# Altium footprint library 常用电容电阻电感.PCBLIB: 79 footprints (part 3 of 5)
Each footprint in its own frame and in the unit in brackets; x right, y up, seen from the top. Pads: shape width x height; smd on the part's side, far side on the other; paste and mask are expansions set on the pad; w line width, h text height; cw(c..) or ccw(c..) is an arc to the next point about the centre after c.
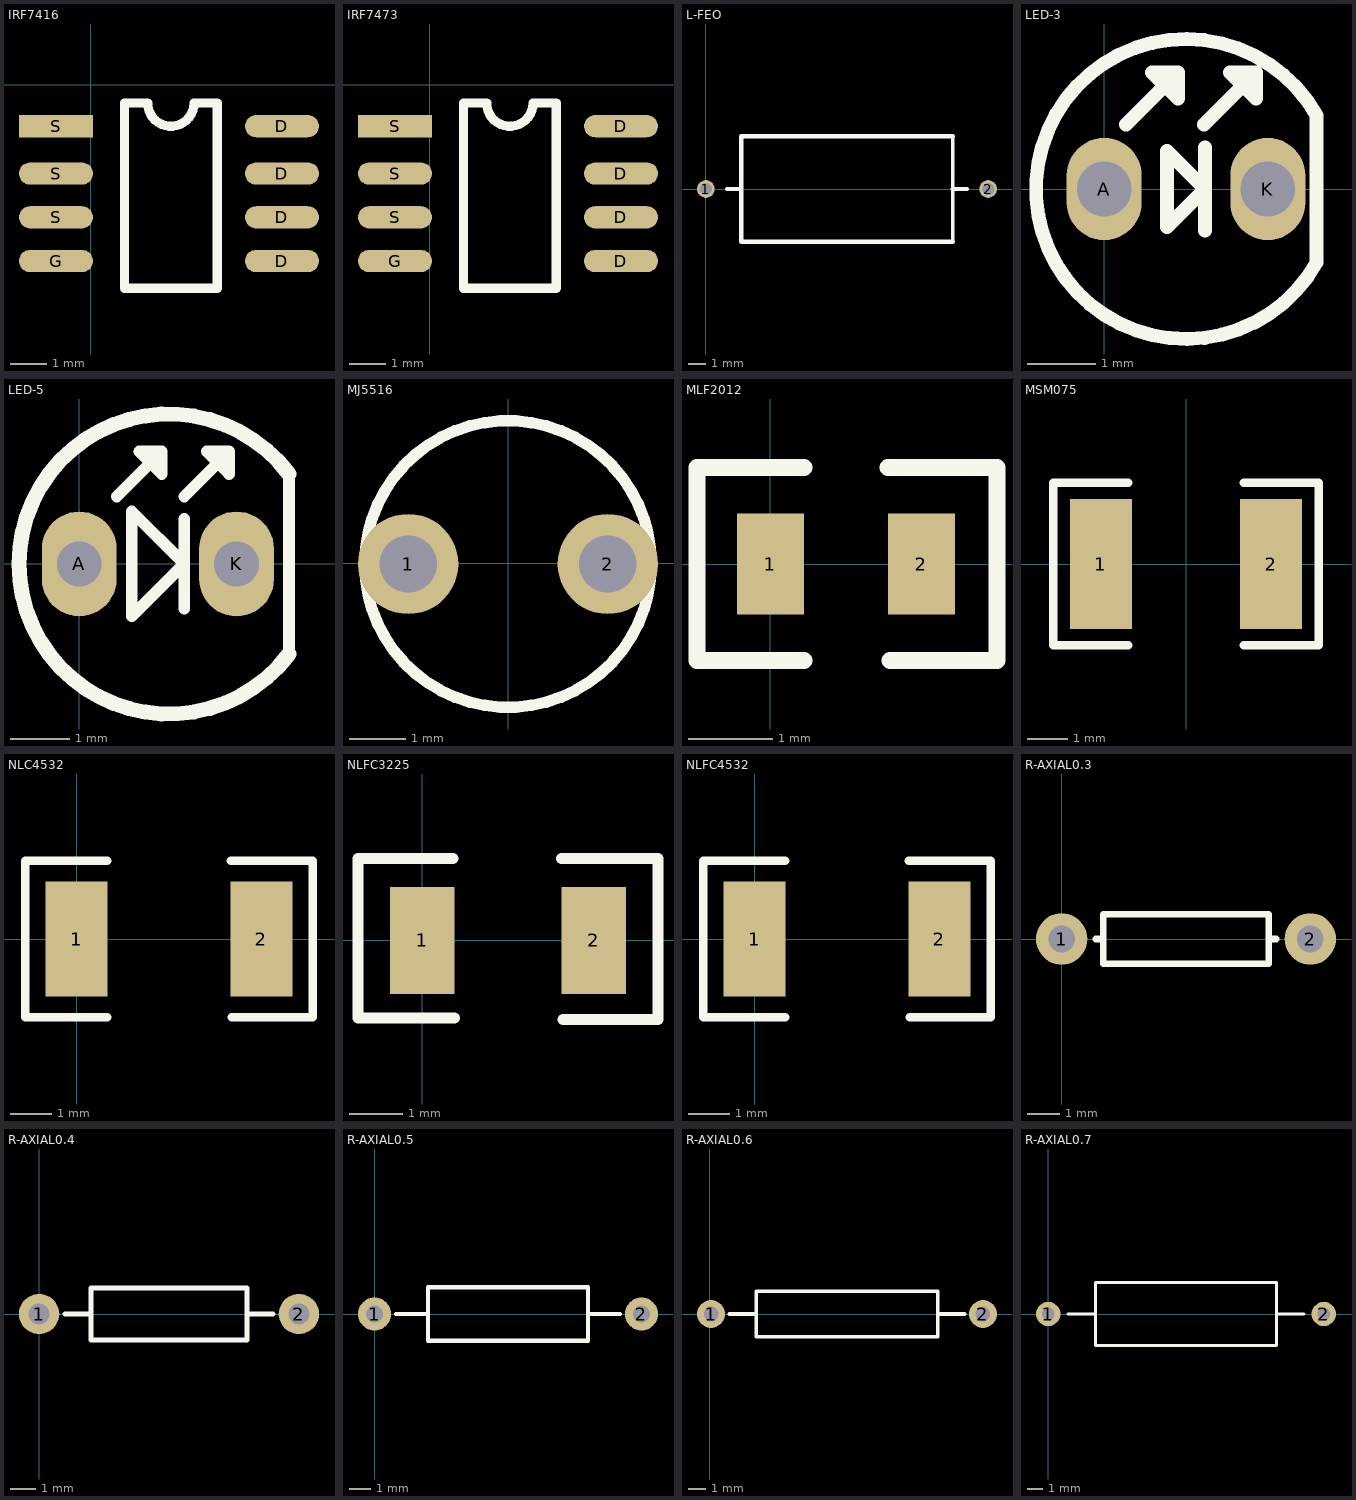
[diagram p2: the footprints below, top view; thin cyan lines are the x and y axes]

## IRF7416 [mil]
pads (8):
  oval 80x24 smd: D(206.41,-190.67) D(206.41,-143.43) D(206.41,-96.18) D(206.41,-45) G(-37.69,-190.67) S(-37.69,-143.43) S(-37.69,-96.18)
  rect 80x24 smd: S(-37.69,-45)
TopOverlay:
  lines w10: 36.39,-220.06 136.39,-220.06 136.39,-20.06 111.39,-20.06 cw(c86.39,-20.06) 61.39,-20.06 36.39,-20.06 36.39,-220.06

## IRF7473 [mil]
pads (8):
  oval 80x24 smd: D(206.41,-190.67) D(206.41,-143.43) D(206.41,-96.18) D(206.41,-45) G(-37.69,-190.67) S(-37.69,-143.43) S(-37.69,-96.18)
  rect 80x24 smd: S(-37.69,-45)
TopOverlay:
  lines w10: 36.39,-220.06 136.39,-220.06 136.39,-20.06 111.39,-20.06 cw(c86.39,-20.06) 61.39,-20.06 36.39,-20.06 36.39,-220.06

## L-FEO [mm]
pads (2):
  round 1 hole 0.7: 1(0,0) 2(16,0)
TopOverlay:
  lines w0.2: 14,-3 14,3
  lines w0.254: 1.2,0 2,0 ; 14,-3 2,-3 2,3 14,3 ; 14,0 14.8,0

## LED-3 [mm]
pads (2):
  oval 1.1x1.5 hole 0.8: A(0,0) K(2.4,0)
TopOverlay:
  lines w0.203: 0.322,0.946 1.084,1.708 ; 1.465,0.946 2.227,1.708 ; 1.479,-0.61 1.479,0.61 ; 3.116,-1.073 3.116,1.082 ccw(c1.2,0) 3.119,-1.076 ; 1.084,1.708 0.703,1.708 1.084,1.327 1.084,1.708 ; 2.227,1.708 2.227,1.327 1.846,1.708 2.227,1.708 ; 0.921,-0.559 1.479,0 0.921,0.559 0.921,-0.559

## LED-5 [mil]
pads (2):
  oval 50x70 hole 30: A(0,0) K(105,0)
TopOverlay:
  lines w7.78: 25,45 55,75 ; 70,-30 70,30 ; 70,45 100,75 ; 140,-60.15 140,60 ; 55,75 40,75 55,60 55,75 ; 100,75 85,75 100,60 100,75 ; 35,-35 70,0 35,35 35,-35
  lines w10: 140,-60.15 cw(c59.9,-0.07) 140,60

## MJ5516 [mil]
pads (2):
  round 70 hole 40: 1(-69.69,-0.35) 2(69.68,-0.35)
TopOverlay:
  circle w8: c0,-0.35 r100

## MLF2012 [mm]
pads (2):
  rect 0.8x1.2 smd: 1(0,0) 2(1.8,0)
TopOverlay:
  lines w0.203: 0.4,-1.15 -0.875,-1.15 -0.875,1.15 0.4,1.15 ; 1.4,1.15 2.7,1.15 2.7,-1.15 1.425,-1.15

## MSM075 [mm]
pads (2):
  rect 1.524x3.2 smd: 1(-2.1,0) 2(2.1,0)
TopOverlay:
  lines w0.203: -1.422,-2.007 -3.277,-2.007 -3.277,2.007 -1.422,2.007 ; 1.422,-2.007 3.277,-2.007 3.277,2.007 1.422,2.007

## NLC4532 [mm]
pads (2):
  rect 1.5x2.8 smd: 1(0,0) 2(4.5,0)
TopOverlay:
  lines w0.203: 0.75,-1.9 -1.25,-1.9 -1.25,1.9 0.75,1.9 ; 3.75,1.9 5.75,1.9 5.75,-1.9 3.775,-1.9

## NLFC3225 [mm]
pads (2):
  rect 1.2x2 smd: 1(0,0) 2(3.2,0)
TopOverlay:
  lines w0.203: 0.575,1.525 -1.199,1.525 -1.199,-1.45 0.6,-1.45 ; 2.6,1.525 4.399,1.525 4.399,-1.475 2.625,-1.475

## NLFC4532 [mm]
pads (2):
  rect 1.5x2.8 smd: 1(0,0) 2(4.5,0)
TopOverlay:
  lines w0.203: 0.75,-1.9 -1.25,-1.9 -1.25,1.9 0.75,1.9 ; 3.75,1.9 5.75,1.9 5.75,-1.9 3.775,-1.9

## R-AXIAL0.3 [mil]
pads (2):
  round 62 hole 32: 1(0,0) 2(300,0)
TopOverlay:
  lines w8: 41,0 50,0 ; 259,0 250,0 ; 250,0 250,-30 50,-30 50,30 250,30 250,0

## R-AXIAL0.4 [mil]
pads (2):
  round 62 hole 32: 1(0,0) 2(400,0)
TopOverlay:
  lines w8: 40,0 80,0 ; 320,0 360,0 ; 80,-40 320,-40 320,40 80,40 80,-40

## R-AXIAL0.5 [mil]
pads (2):
  round 62 hole 32: 1(0,0) 2(500,0)
TopOverlay:
  lines w8: 40,0 100,0 ; 400,0 460,0 ; 100,-50 100,50 400,50 400,-50 100,-50

## R-AXIAL0.6 [mil]
pads (2):
  round 62 hole 32: 1(2.5,0) 2(602.5,0)
TopOverlay:
  lines w8: 42.5,0 102.5,0 ; 502.5,0 562.5,0 ; 102.5,-50 502.5,-50 502.5,50 102.5,50 102.5,-50

## R-AXIAL0.7 [mil]
pads (2):
  round 62 hole 32: 1(0,0) 2(700,0)
TopOverlay:
  lines w8: 50,0 120,0 ; 580,0 650,0 ; 120,-80 120,80 580,80 580,-80 120,-80